# EAGLE library part HMC5983 (library Strutz Electronic Industries)
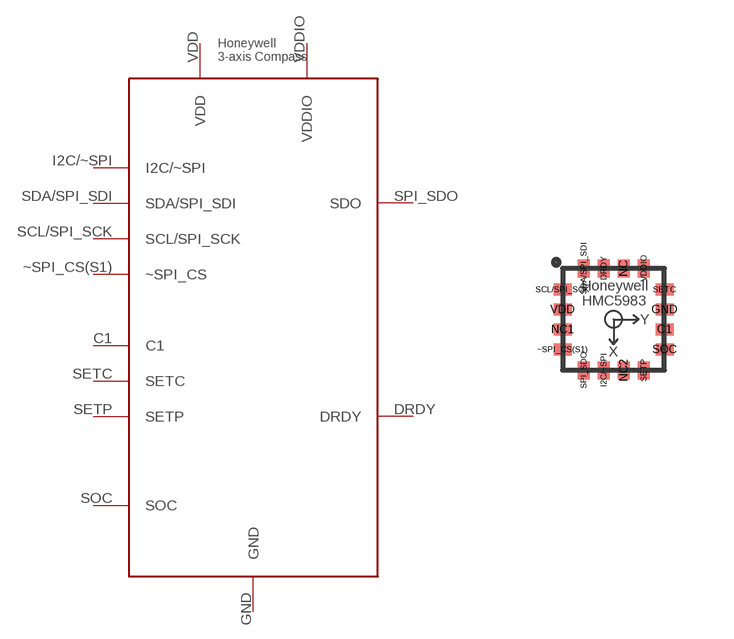
[diagram p0: symbol with the pads of HMC5983-TR; footprint HMC5983-TR]

Designator prefix -

## HMC5983QFN-16  [HMC5983-TR]
C1  C1
DRDY  DRDY
GND  GND
I2C/~SPI  I2C/~SPI
SCL/SPI_SCK  SCL/SPI_SCK
SDA/SPI_SDI  SDA/SPI_SDI
SETC  SETC
SETP  SETP
SOC  SOC
SPI_SDO  SDO
VDD  VDD
VDDIO  VDDIO
~SPI_CS(S1)  ~SPI_CS

## Footprint HMC5983-TR (pad centres in mm)
smd 0.45 x 0.3: C1 1.275,-0.25; GND 1.275,0.25; NC1 -1.275,-0.25; SCL/SPI_SCK -1.275,0.75; SETC 1.275,0.75; SOC 1.275,-0.75; VDD -1.275,0.25; ~SPI_CS(S1) -1.275,-0.75
smd 0.3 x 0.45: DRDY -0.25,1.275; I2C/~SPI -0.25,-1.275; NC 0.25,1.275; NC2 0.25,-1.275; SDA/SPI_SDI -0.75,1.275; SETP 0.75,-1.275; SPI_SDO -0.75,-1.275; VDDIO 0.75,1.275